# Altium schematic symbol library Header 10H.Schlib: 1 symbol
Pins are listed as number, name and electrical type; pins without a type are passive.

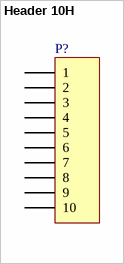
[diagram p0: symbol Header 10H]

## Header 10H
designator P?
Header, 10-Pin, Right Angle
pins: 1, 2, 3, 4, 5, 6, 7, 8, 9, 10